# Altium schematic symbol library SJ1-3525N.SchLib: 1 symbol
Pins are listed as number, name and electrical type; pins without a type are passive.

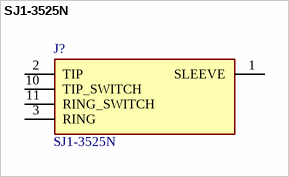
[diagram p0: symbol SJ1-3525N]

## SJ1-3525N
designator J?
3.5 mm, Stereo, Right Angle, Through Hole, 3 Conductors, 2 Internal Switches, Audio Jack Connector; Manufacturer_Name: CUI Inc.; Geometry.Height: 6.25mm; Manufacturer_Part_Number: SJ1-3525N; Mouser Part Number: *; Mouser Price/Stock: *; Arrow Part Number: *; Arrow Price/Stock: *; Datasheet Link: https://www.cuidevices.com/product/resource/pdf/sj1-352xn.pdf
footprint SJ13525N
pins: 1 SLEEVE, 2 TIP, 3 RING, 10 TIP_SWITCH, 11 RING_SWITCH